# Altium footprint library ad_lib.PcbLib: 7 footprints
Each footprint in its own frame and in the unit in brackets; x right, y up, seen from the top. Pads: shape width x height; smd on the part's side, far side on the other; paste and mask are expansions set on the pad; w line width, h text height; cw(c..) or ccw(c..) is an arc to the next point about the centre after c.
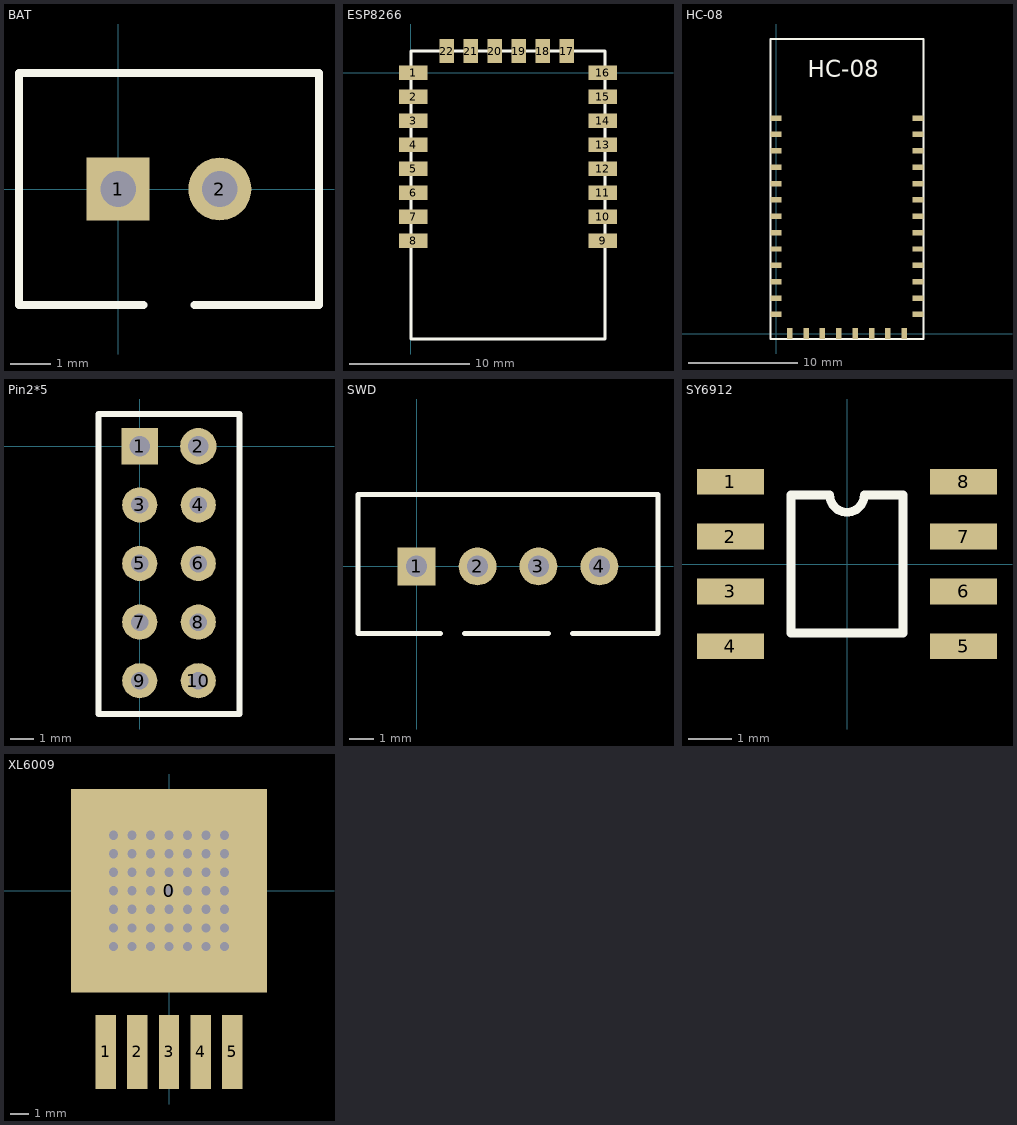
[diagram p0: the footprints below, top view; thin cyan lines are the x and y axes]

## BAT [mil]
pads (2):
  rect 62x62 hole 35: 1(0,0)
  round 62 hole 35: 2(100,0)
Top Overlay:
  lines w8: 25,-114.17 -97.64,-114.17 -97.64,114.17 197.64,114.17 197.64,-114.17 75,-114.17

## ESP8266 [mm]
pads (22):
  rect 2.4x1.2 smd: 1(0.2,0) 2(0.2,-2) 3(0.2,-4) 4(0.2,-6) 5(0.2,-8) 6(0.2,-10) 7(0.2,-12) 8(0.2,-14) 9(16,-14) 10(16,-12) 11(16,-10) 12(16,-8) 13(16,-6) 14(16,-4) 15(16,-2) 16(16,0)
  rect 1.2x2 smd: 17(13,1.8) 18(11,1.8) 19(9,1.8) 20(7,1.8) 21(5,1.8) 22(3,1.8)
Top Overlay:
  lines w0.254: 0,-22.2 0,1.8 16.2,1.8 16.2,-22.2 0,-22.2

## HC-08 [mm]
pads (34):
  rect 1x0.5 smd: 1(0,19.75) 2(0,18.25) 3(0,16.75) 4(0,15.25) 5(0,13.75) 6(0,12.25) 7(0,10.75) 8(0,9.25) 9(0,7.75) 10(0,6.25) 11(0,4.75) 12(0,3.25) 13(0,1.75) 22(13,1.75) 23(13,3.25) 24(13,4.75) 25(13,6.25) 26(13,7.75) 27(13,9.25) 28(13,10.75) 29(13,12.25) 30(13,13.75) 31(13,15.25) 32(13,16.75) 33(13,18.25) 34(13,19.75)
  rect 0.5x1 smd: 14(1.25,0) 15(2.75,0) 16(4.25,0) 17(5.75,0) 18(7.25,0) 19(8.75,0) 20(10.25,0) 21(11.75,0)
Top Overlay:
  lines w0.203: -0.5,-0.5 13.5,-0.5 13.5,27 -0.5,27 -0.5,-0.5
  text "HC-08" at 2.9,23.5 h1.52

## Pin2*5 [mil]
pads (10):
  rect 62x62 hole 35: 1(0,0)
  round 62 hole 35: 2(100,0)
  round 60 hole 30: 3(0,-100) 4(100,-100) 5(0,-200) 6(100,-200) 7(0,-300) 8(100,-300) 9(0,-400) 10(100,-400)
Top Overlay:
  lines w10: -70,-456.81 170,-456.81 170,55 -70,55 -70,-456.81

## SWD [mil]
pads (4):
  rect 62x62 hole 35: 1(0,0)
  round 62 hole 35: 2(100,0) 3(200,0) 4(300,0)
Top Overlay:
  lines w8: 39.37,-110.24 -96.06,-110.24 -96.06,118.11 396.06,118.11 396.06,-110.24 255.91,-110.24 ; 78.74,-110.24 216.54,-110.24

## SY6912 [mm]
pads (8):
  rect 1.55x0.6 smd: 1(-2.7,1.905) 2(-2.7,0.635) 3(-2.7,-0.635) 4(-2.7,-1.905) 5(2.7,-1.905) 6(2.7,-0.635) 7(2.7,0.635) 8(2.7,1.905)
Top Overlay:
  lines w0.203: -1.3,-1.6 -1.3,1.6 -0.4,1.6 ccw(c0,1.6) 0.4,1.6 1.3,1.6 1.3,-1.6 -1.3,-1.6

## XL6009 [mm]
pads (6):
  rect 10.6x11 / inner rect 0x0 / far side rect 10.6x11 all layers, no hole: 0(0,0)
  rect 1.1x4 smd: 1(-3.42,-8.7) 2(-1.71,-8.7) 3(0,-8.7) 4(1.71,-8.7) 5(3.42,-8.7)
via 3,3 diameter 0.7 hole 0.5
via 2,3 diameter 0.7 hole 0.5
via 1,3 diameter 0.7 hole 0.5
via -2,3 diameter 0.7 hole 0.5
via -3,3 diameter 0.7 hole 0.5
via -1,3 diameter 0.7 hole 0.5
via -3,2 diameter 0.7 hole 0.5
via -2,2 diameter 0.7 hole 0.5
via -1,2 diameter 0.7 hole 0.5
via 3,2 diameter 0.7 hole 0.5
via 2,2 diameter 0.7 hole 0.5
via 1,2 diameter 0.7 hole 0.5
via 0,3 diameter 0.7 hole 0.5
via 0,2 diameter 0.7 hole 0.5
via -3,1 diameter 0.7 hole 0.5
via -2,1 diameter 0.7 hole 0.5
via -1,1 diameter 0.7 hole 0.5
via 0,1 diameter 0.7 hole 0.5
via 1,1 diameter 0.7 hole 0.5
via 2,1 diameter 0.7 hole 0.5
via 3,1 diameter 0.7 hole 0.5
via 3,0 diameter 0.7 hole 0.5
via 3,-1 diameter 0.7 hole 0.5
via 3,-2 diameter 0.7 hole 0.5
via 3,-3 diameter 0.7 hole 0.5
via 2,-3 diameter 0.7 hole 0.5
via 2,-2 diameter 0.7 hole 0.5
via 2,-1 diameter 0.7 hole 0.5
via 2,0 diameter 0.7 hole 0.5
via 1,0 diameter 0.7 hole 0.5
via 1,-1 diameter 0.7 hole 0.5
via 1,-2 diameter 0.7 hole 0.5
via 1,-3 diameter 0.7 hole 0.5
via -3,0 diameter 0.7 hole 0.5
via -2,0 diameter 0.7 hole 0.5
via -1,0 diameter 0.7 hole 0.5
via -1,-1 diameter 0.7 hole 0.5
via -2,-1 diameter 0.7 hole 0.5
via -3,-1 diameter 0.7 hole 0.5
via -3,-2 diameter 0.7 hole 0.5
via -2,-2 diameter 0.7 hole 0.5
via -1,-2 diameter 0.7 hole 0.5
via -3,-3 diameter 0.7 hole 0.5
via -2,-3 diameter 0.7 hole 0.5
via -1,-3 diameter 0.7 hole 0.5
via 0,0 diameter 0.7 hole 0.5
via 0,-3 diameter 0.7 hole 0.5
via 0,-2 diameter 0.7 hole 0.5
via 0,-1 diameter 0.7 hole 0.5